# EAGLE library part STM32F042K6T6 (library stm32)
MCU 32BIT 32KB FLASH 32LQFP
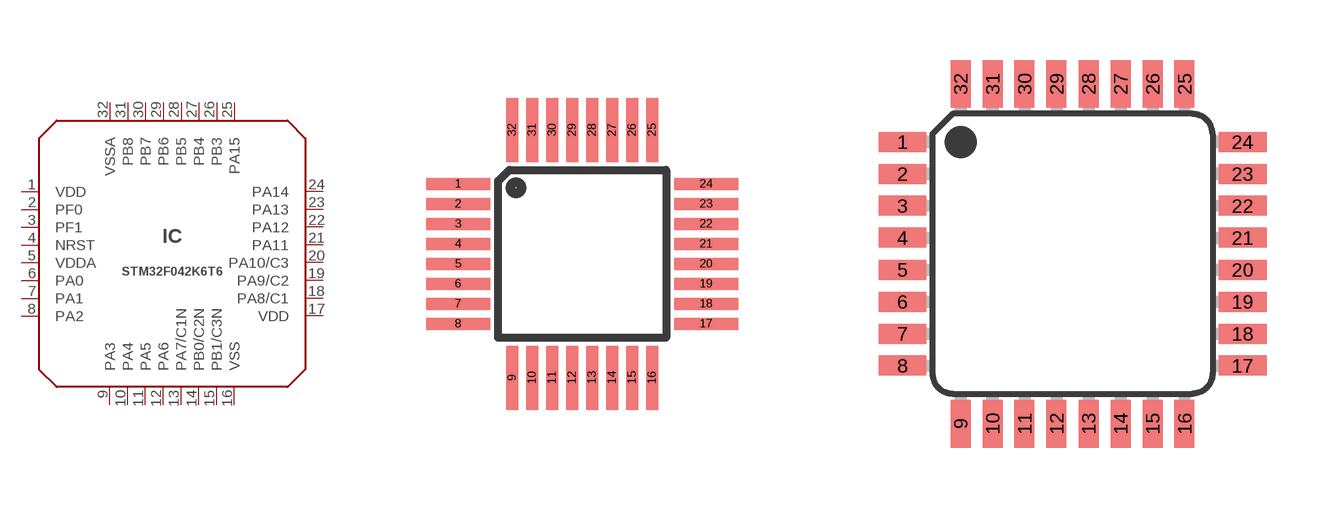
[diagram p28: symbol with the pads of LQFP32-5X5; footprints LQFP32-5X5, LQFP32-7X7]

Designator prefix IC

## STM32F042K6T6--- (DIGIKEY#: 497-14647-ND; MANF: STMicroelectronics; MANF#: STM32F042K6T6)  [LQFP32-5X5]
1  VDD
2  PF0
3  PF1
4  NRST
5  VDDA
6  PA0
7  PA1
8  PA2
9  PA3
10  PA4
11  PA5
12  PA6
13  PA7/C1N
14  PB0/C2N
15  PB1/C3N
16  VSS
17  VDD
18  PA8/C1
19  PA9/C2
20  PA10/C3
21  PA11
22  PA12
23  PA13
24  PA14
25  PA15
26  PB3
27  PB4
28  PB5
29  PB6
30  PB7
31  PB8
32  VSSA

## STM32F042K6T6-LQFP32(7X7) (DIGIKEY#: 497-14647-ND; MANF: STMicroelectronics; MANF#: STM32F042K6T6)  [LQFP32-7X7]
Pads as for LQFP32-5X5

## Footprint LQFP32-5X5 (pad centres in mm)
Quad FLat Pack RFMicro Device TQFP / LQFP-32 see IPC-SQR.LBR SQFP 5x5-32
smd 1.6 x 0.3: 1 -3.1,1.75; 2 -3.1,1.25; 3 -3.1,0.75; 4 -3.1,0.25; 5 -3.1,-0.25; 6 -3.1,-0.75; 7 -3.1,-1.25; 8 -3.1,-1.75; 17 3.1,-1.75; 18 3.1,-1.25; 19 3.1,-0.75; 20 3.1,-0.25; 21 3.1,0.25; 22 3.1,0.75; 23 3.1,1.25; 24 3.1,1.75
smd 0.3 x 1.6: 9 -1.75,-3.1; 10 -1.25,-3.1; 11 -0.75,-3.1; 12 -0.25,-3.1; 13 0.25,-3.1; 14 0.75,-3.1; 15 1.25,-3.1; 16 1.75,-3.1; 25 1.75,3.1; 26 1.25,3.1; 27 0.75,3.1; 28 0.25,3.1; 29 -0.25,3.1; 30 -0.75,3.1; 31 -1.25,3.1; 32 -1.75,3.1

## Footprint LQFP32-7X7 (pad centres in mm)
LQFP-32 package 7x7 mm case, 0.8 mm lead pitch Sourced: Data sheet <http://www.st.com/stonline/products/literature/ds/14771/stm8s105c4.pdf> 3D model <https://www.3dcontentcentral.com/secure/download-model.aspx?catalogid=171&id=401547>
smd 1.2 x 0.5: 1 -4.25,2.8; 2 -4.25,2; 3 -4.25,1.2; 4 -4.25,0.4; 5 -4.25,-0.4; 6 -4.25,-1.2; 7 -4.25,-2; 8 -4.25,-2.8; 17 4.25,-2.8; 18 4.25,-2; 19 4.25,-1.2; 20 4.25,-0.4; 21 4.25,0.4; 22 4.25,1.2; 23 4.25,2; 24 4.25,2.8
smd 0.5 x 1.2: 9 -2.8,-4.25; 10 -2,-4.25; 11 -1.2,-4.25; 12 -0.4,-4.25; 13 0.4,-4.25; 14 1.2,-4.25; 15 2,-4.25; 16 2.8,-4.25; 25 2.8,4.25; 26 2,4.25; 27 1.2,4.25; 28 0.4,4.25; 29 -0.4,4.25; 30 -1.2,4.25; 31 -2,4.25; 32 -2.8,4.25